# Altium schematic symbol library Schlib1.SchLib: 1 symbol
Pins are listed as number, name and electrical type; pins without a type are passive.

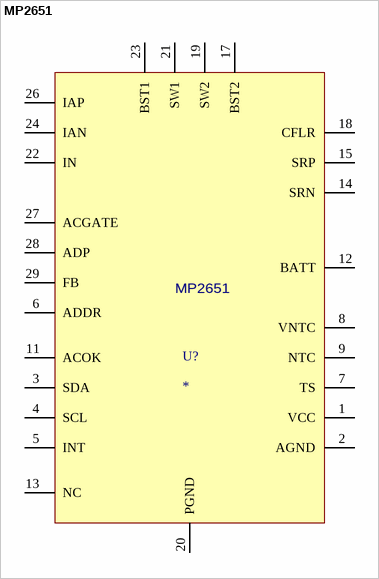
[diagram p0: symbol MP2651]

## MP2651
designator U?
MP2651 – BUCK-BOOST CHARGER FOR 1 TO 4 CELLS IN SERIES
footprint MP2651 (MP2651 – BUCK-BOOST CHARGER FOR 1 TO 4 CELLS IN SERIES)
pins: 1 VCC, 2 AGND, 3 SDA, 4 SCL, 5 INT, 6 ADDR, 7 TS, 8 VNTC, 9 NTC, 11 ACOK, 12 BATT, 13 NC, 14 SRN, 15 SRP, 17 BST2, 18 CFLR, 19 SW2, 20 PGND, 21 SW1, 22 IN, 23 BST1, 24 IAN, 26 IAP, 27 ACGATE, 28 ADP, 29 FB